# EAGLE library part TTLTORS485 (library ttl_rs485)
create by mikroavr.com converter serial to modbus
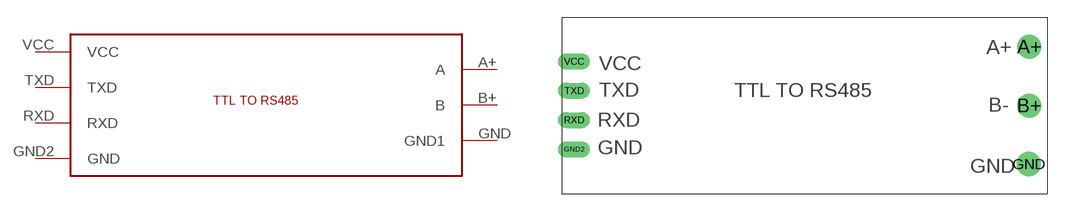
[diagram p0: symbol with the pads of TTLTORS485; footprint TTLTORS485]

Designator prefix -

## TTLTORS485  [TTLTORS485]
A+  A
B+  B
GND  GND1
GND2  GND
RXD  RXD
TXD  TXD
VCC  VCC

## Footprint TTLTORS485 (pad centres in mm)
drill 1.4: A+ 16.62,7.63; B+ 16.61,2.52; GND 16.57,-2.55
drill 0.9 long: GND2 -22.86,-1.27; RXD -22.86,1.27; TXD -22.86,3.81; VCC -22.86,6.35